# Altium footprint library SMD4.PcbLib: 1 footprints
Each footprint in its own frame and in the unit in brackets; x right, y up, seen from the top. Pads: shape width x height; smd on the part's side, far side on the other; paste and mask are expansions set on the pad; w line width, h text height; cw(c..) or ccw(c..) is an arc to the next point about the centre after c.
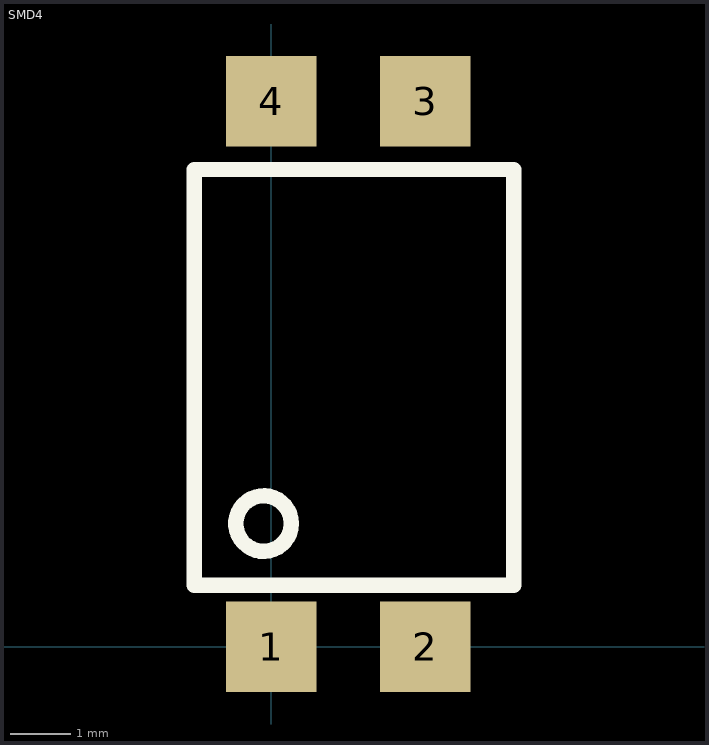
[diagram p0: the footprint, top view; thin cyan lines are the x and y axes]

## SMD4 [mm]
pads (4):
  rect 1.5x1.5 smd: 1(0,0) 2(2.54,0) 3(2.54,9) 4(0,9)
Top Overlay:
  circle w0.254: c-0.127,2.032 r0.458
  lines w0.254: -1.27,1.016 4,1.016 4,7.874 -1.016,7.874 -1.27,7.874 -1.27,1.016
3D body: height 3.9, standoff 0, extent -1.397,0.889 4,8.001